# EAGLE library part AT512 (library okamoto)
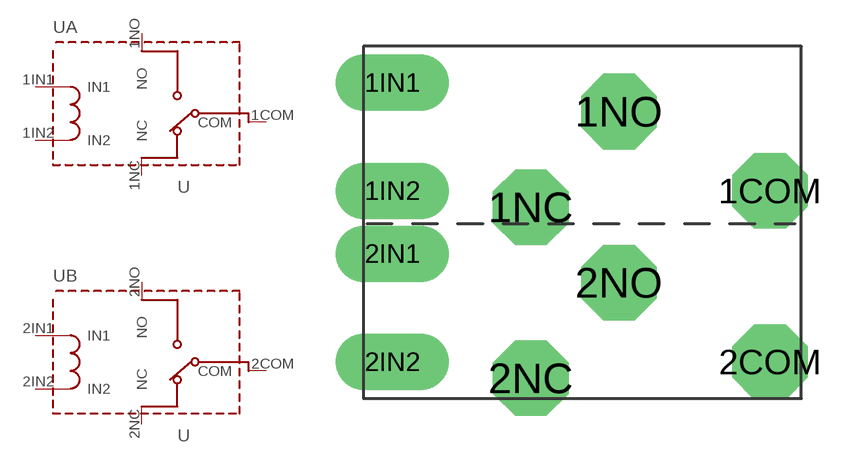
[diagram p21: symbol with the pads of ACT512; footprint ACT512]

Designator prefix U; gates A=ACT512 B=ACT512

## AT512  [ACT512]
1COM  A:COM  pas
1IN1  A:IN1  pwr
1IN2  A:IN2  in
1NC  A:NC
1NO  A:NO
2COM  B:COM  pas
2IN1  B:IN1  pwr
2IN2  B:IN2  in
2NC  B:NC
2NO  B:NO

## Footprint ACT512 (pad centres in mm)
drill 1.5 pad 3 octagon: 1COM 7,0.8; 1NC -2.5,0.15; 1NO 1,3.95; 2COM 7,-6; 2NC -2.5,-6.65; 2NO 1,-2.85
drill 1.5 pad 1.93 long: 1IN1 -8,5.1; 1IN2 -8,0.8; 2IN1 -8,-1.7; 2IN2 -8,-6